# EAGLE library part 505575-07 (library MOLEX)
Molex 505575-07 7 Position 2.00mm pitch connector wire to board connector Datasheet <https://www.molex.com/pdm_docs/sd/5055750271_sd.pdf>
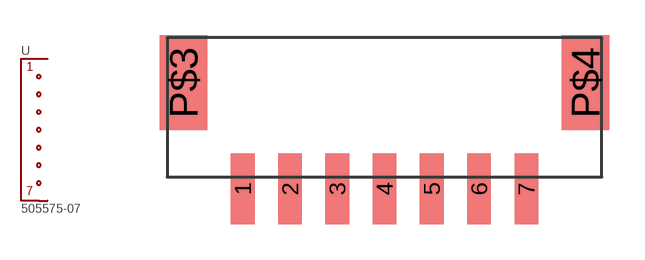
[diagram p1: symbol with the pads of 505575-07; footprint 505575-07]

Designator prefix -

## 505575-07  [505575-07]
1  1
2  2
3  3
4  4
5  5
6  6
7  7

## Footprint 505575-07 (pad centres in mm)
Molex 505575-07
smd 1 x 3: 1 -6,-0.5; 2 -4,-0.5; 3 -2,-0.5; 4 0,-0.5; 5 2,-0.5; 6 4,-0.5; 7 6,-0.5
smd 2 x 4: P$3 -8.5,4; P$4 8.5,4